# EAGLE library part ALPSMX-1U-RGBLED (library AlpsCherry)
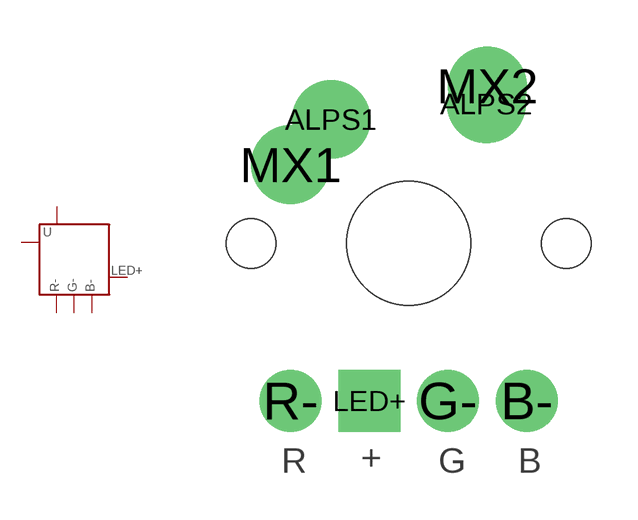
[diagram p1: symbol with the pads of P-ALPSMX-1U-RGBLED; footprint P-ALPSMX-1U-RGBLED]

Designator prefix -

## ALPSMX-1U-RGBLED  [P-ALPSMX-1U-RGBLED]
ALPS1  P0
ALPS2  P1
B-  B-
G-  G-
LED+  LED+
MX1  P0
MX2  P1
R-  R-

## Footprint P-ALPSMX-1U-RGBLED (pad centres in mm)
Cherry MX Keyswitch footprint
drill 1.3 pad 2.54: ALPS1 -2.5,4; ALPS2 2.5,4.5; MX1 -3.81,2.54; MX2 2.54,5.08
drill 1 pad 2: B- 3.81,-5.08; G- 1.27,-5.08; R- -3.81,-5.08
drill 1 pad 2 square: LED+ -1.27,-5.08
hole 4 at 0,0
hole 1.6 at -5.08,0
hole 1.6 at 5.08,0